# Altium schematic symbol library TE.SchLib: 2 symbols
Pins are listed as number, name and electrical type; pins without a type are passive.

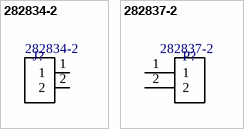
[diagram p0: symbols 282834-2 to 282837-2]

## 282834-2
designator J?, comment MPN: 282834-2  (hidden comment: TERM BLK 2P SIDE ENT 2.54MM PCB)
2 Position Wire to Board Terminal Block Horizontal with Board 0.100" (2.54mm) Through Hole; MF: TE Connectivity; Centerline_Pitch: 2.54 mm[.1 in]; Number_of_Positions: 2; System: Connector; EU_RoHS_Compliance: Compliant with Exemptions; SnapEDA_Link: https://www.snapeda.com/parts/282834-2/TE%20Connectivity%20AMP%20Connectors/view-part/431057/?ref=snap; Price: None; Value: *; TE_purchase_URL: https://www.te.com/usa-en/product-282834-2.html?te_bu=Cor&te_type=disp&te_campaign=seda_glo_cor-seda-global-disp-prtnr-fy19-seda-model-bom-cta_sma-317_1&elqCampaignId=32493; Availability: Unavailable; Package: None; Supplier 1: Digi-Key; Supplier Part Number 1: A98333-ND
footprint CONN_282834-2
pins: 1, 2

## 282837-2
designator P?, comment MPN: 282837-2  (hidden comment: TERM BLK 2P SIDE ENT 5.08MM PCB)
2 Position Wire to Board Terminal Block Horizontal with Board 0.200" (5.08mm) Through Hole; MF: TE Connectivity; System: Connector; Digi-Key_Purchase_URL: https://www.digikey.in/product-detail/en/te-connectivity-amp-connectors/282837-2/A113320-ND/2187973?utm_source=snapeda&utm_medium=aggregator&utm_campaign=symbol; Value: *; TE_purchase_URL: https://www.te.com/usa-en/product-282837-2.html?te_bu=Cor&te_type=disp&te_campaign=seda_glo_cor-seda-global-disp-prtnr-fy19-seda-model-bom-cta_sma-317_1&elqCampaignId=32493; Package: None; SnapEDA_Link: https://www.snapeda.com/parts/282837-2/TE%20Connectivity%20AMP%20Connectors/view-part/2549980/?ref=snap; Digi-Key_Part_Number: A113320-ND; Supplier 1: Digi-Key; Supplier Part Number 1: A113320-ND
footprint TE_282837-2
pins: 1, 2